# Altium footprint library Resonit_PCB_lib.PcbLib: 20 footprints (part 1 of 2)
Each footprint in its own frame and in the unit in brackets; x right, y up, seen from the top. Pads: shape width x height; smd on the part's side, far side on the other; paste and mask are expansions set on the pad; w line width, h text height; cw(c..) or ccw(c..) is an arc to the next point about the centre after c.
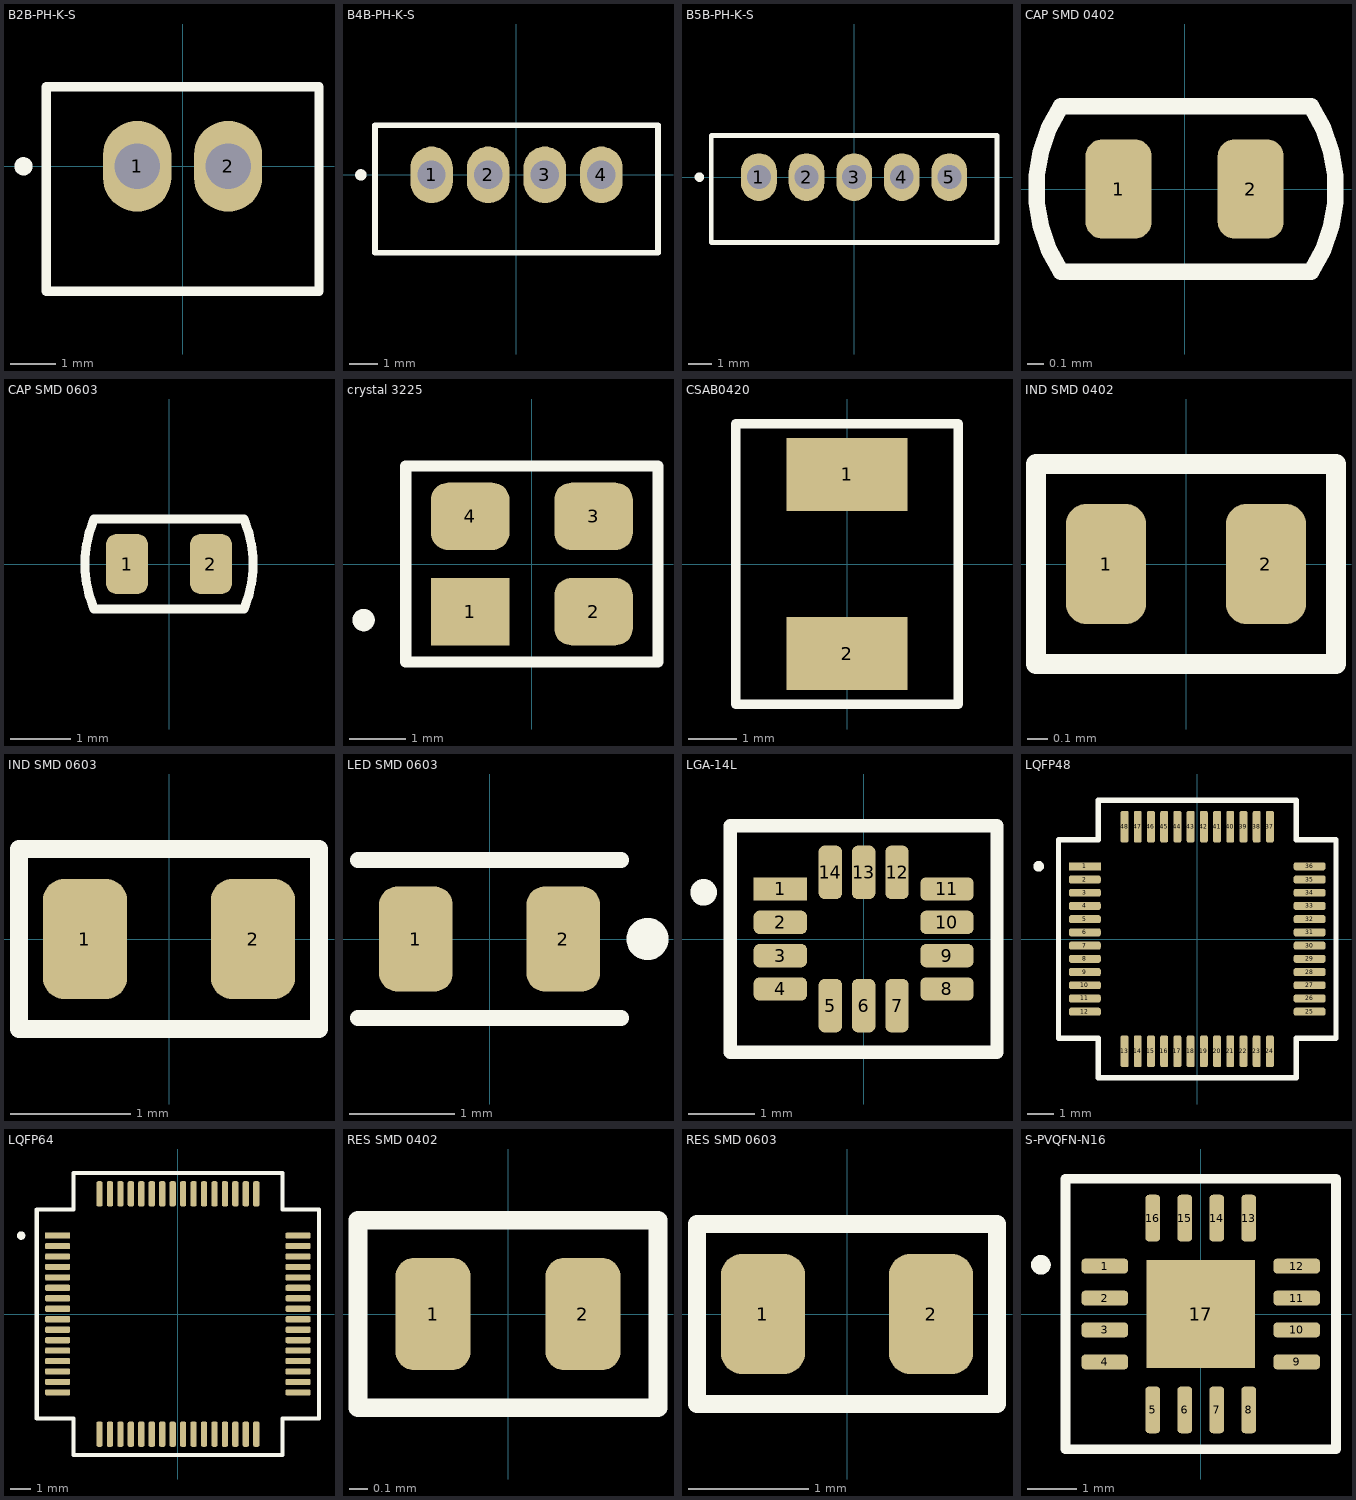
[diagram p0: the footprints below, top view; thin cyan lines are the x and y axes]

## B2B-PH-K-S [mm]
pads (2):
  oval 1.5x2 hole 1: 1(-1,0) 2(1,0)
Top Overlay:
  circle w0.2: c-3.5,0 r0.1
  lines w0.2: -3,-2.75 3,-2.75 3,1.75 -3,1.75 -3,-2.75
3D body "User Library-JST B2B-PH-K-S.step": height 6, standoff -3.4, extent -2.95,-2.75 2.95,1.75

## B4B-PH-K-S [mm]
pads (4):
  oval 1.5x2 hole 1: 1(-3,0) 2(-1,0) 3(1,0) 4(3,0)
Top Overlay:
  circle w0.2: c-5.5,0 r0.1
  lines w0.2: -5,-2.75 -5,1.75 5,1.75 5,-2.75 -5,-2.75
3D body "User Library-b4b-ph-k-s (1).step": height 6, standoff -3, extent -4.95,-2.75 4.95,1.75

## B5B-PH-K-S [mm]
pads (5):
  oval 1.5x2 hole 1: 1(-4,0) 2(-2,0) 3(0,0) 4(2,0) 5(4,0)
Top Overlay:
  circle w0.2: c-6.5,0 r0.1
  lines w0.2: -6,-2.75 6,-2.75 6,1.75 -6,1.75 -6,-2.75
3D body "User Library-B5B-PH-K-S(LF)(SN).step": height 6, standoff -3.4, extent -5.95,-2.75 5.95,1.75

## CAP SMD 0402 [mm]
pads (2):
  rrect50% 0.4x0.6 smd: 1(-0.4,0) 2(0.4,0)
Top Overlay:
  lines w0.1: 0.75,-0.5 -0.75,-0.5 cw(c0.008,0) -0.75,0.5 0.75,0.5 ; 0.767,-0.5 ccw(c0.008,0) 0.767,0.5
3D body "User Library-Cap-SMT (1).step": height 0.5, standoff 0, extent -0.5,-0.25 0.5,0.25

## CAP SMD 0603 [mm]
pads (2):
  rrect50% 0.7x1 smd: 1(-0.7,0) 2(0.7,0)
Top Overlay:
  lines w0.15: -1.25,-0.75 cw(c0.55,0) -1.25,0.75 1.25,0.75 cw(c-0.55,0) 1.25,-0.75 -1.25,-0.75
3D body "User Library-Cap-SMT.step": height 0.8, standoff 0, extent -0.8,-0.4 0.8,0.4

## crystal 3225 [mm]
pads (4):
  rect 1.4x1.2 smd: 1(-1.1,-0.85)
  rrect50% 1.4x1.2 smd: 2(1.1,-0.85) 3(1.1,0.85) 4(-1.1,0.85)
Top Overlay:
  circle w0.2: c-3,-1 r0.1
  lines w0.2: -2.25,-1.75 2.25,-1.75 2.25,1.75 -2.25,1.75 -2.25,-1.75
3D body "User Library-Crystal_ECX-32.STEP": height 0.82, standoff 0, extent -1.6,-1.25 1.6,1.25

## CSAB0420 [mm]
pads (2):
  rect 2.5x1.5 smd: 1(0,1.85) 2(0,-1.85)
Top Overlay:
  lines w0.2: -2.3,-2.9 -2.3,2.9 2.3,2.9 2.3,-2.9 -2.3,-2.9
3D body "CSAB0420.stp": height 1.9, standoff 0.05, extent -2.1,-2.35 2.1,2.35

## IND SMD 0402 [mm]
pads (2):
  rrect50% 0.4x0.6 smd: 1(-0.4,0) 2(0.4,0)
Top Overlay:
  lines w0.1: -0.75,-0.5 -0.75,0.5 0.75,0.5 0.75,-0.5 -0.75,-0.5
3D body "Coilcraft-0402HPH.step": height 0.65, standoff -0.01, extent -0.559,-0.356 0.559,0.356

## IND SMD 0603 [mm]
pads (2):
  rrect50% 0.7x1 smd: 1(-0.7,0) 2(0.7,0)
Top Overlay:
  lines w0.15: -1.25,-0.75 -1.25,0.75 1.25,0.75 1.25,-0.75 -1.25,-0.75
3D body "Coilcraft-0603HP.step": height 0.93, standoff -0.01, extent -0.875,-0.545 0.875,0.545

## LED SMD 0603 [mm]
pads (2):
  rrect50% 0.7x1 smd: 1(-0.7,0) 2(0.7,0)
Top Overlay:
  circle w0.2: c1.5,0 r0.1
  lines w0.15: -1.25,-0.75 1.25,-0.75 ; -1.25,0.75 1.25,0.75
3D body "ALSRobot-LED0603(R).step": height 0.6, standoff 0, extent -0.81,-0.4 0.81,0.4

## LGA-14L [mm]
pads (14):
  rect 0.8x0.35 smd: 1(-1.25,0.75)
  rrect50% 0.8x0.35 smd: 2(-1.25,0.25) 3(-1.25,-0.25) 4(-1.25,-0.75) 8(1.25,-0.75) 9(1.25,-0.25) 10(1.25,0.25) 11(1.25,0.75)
  rrect50% 0.35x0.8 smd: 5(-0.5,-1) 6(0,-1) 7(0.5,-1) 12(0.5,1) 13(0,1) 14(-0.5,1)
Top Overlay:
  circle w0.2: c-2.4,0.7 r0.1
  lines w0.2: -2,-1.7 2,-1.7 2,1.7 -2,1.7 -2,-1.7
3D body "User Library-LGA-14L.step": height 0.91, standoff 0.04, extent -1.5,-1.25 1.5,1.25

## LQFP48 [mm]
pads (48):
  rect 1.2x0.3 smd: 1(-4.25,2.75)
  rrect50% 1.2x0.3 smd: 2(-4.25,2.25) 3(-4.25,1.75) 4(-4.25,1.25) 5(-4.25,0.75) 6(-4.25,0.25) 7(-4.25,-0.25) 8(-4.25,-0.75) 9(-4.25,-1.25) 10(-4.25,-1.75) 11(-4.25,-2.25) 12(-4.25,-2.75) 25(4.25,-2.75) 26(4.25,-2.25) 27(4.25,-1.75) 28(4.25,-1.25) 29(4.25,-0.75) 30(4.25,-0.25) 31(4.25,0.25) 32(4.25,0.75) 33(4.25,1.25) 34(4.25,1.75) 35(4.25,2.25) 36(4.25,2.75)
  rrect50% 0.3x1.2 smd: 13(-2.75,-4.25) 14(-2.25,-4.25) 15(-1.75,-4.25) 16(-1.25,-4.25) 17(-0.75,-4.25) 18(-0.25,-4.25) 19(0.25,-4.25) 20(0.75,-4.25) 21(1.25,-4.25) 22(1.75,-4.25) 23(2.25,-4.25) 24(2.75,-4.25) 37(2.75,4.25) 38(2.25,4.25) 39(1.75,4.25) 40(1.25,4.25) 41(0.75,4.25) 42(0.25,4.25) 43(-0.25,4.25) 44(-0.75,4.25) 45(-1.25,4.25) 46(-1.75,4.25) 47(-2.25,4.25) 48(-2.75,4.25)
Top Overlay:
  circle w0.2: c-6,2.75 r0.1
  lines w0.2: -3.75,-3.75 -3.75,-5.25 3.75,-5.25 3.75,-3.75 ; -3.75,-3.75 -3.75,-3.75 ; -3.75,-3.75 -5.25,-3.75 -5.25,3.75 -3.75,3.75 -3.75,5.25 3.75,5.25 ; 3.75,-3.75 5.25,-3.75 5.25,3.75 3.75,3.75 3.75,5.25 ; 3.75,-3.75 3.75,-3.75 ; 3.75,5.25 3.75,5.25
3D body "User Library-LQFP48-2.STEP": height 1.62, standoff -0.01, extent -4.572,-4.572 4.572,4.572

## LQFP64 [mm]
pads (64):
  rect 1.2x0.3 smd: 1(-5.75,3.75)
  rrect50% 1.2x0.3 smd: 2(-5.75,3.25) 3(-5.75,2.75) 4(-5.75,2.25) 5(-5.75,1.75) 6(-5.75,1.25) 7(-5.75,0.75) 8(-5.75,0.25) 9(-5.75,-0.25) 10(-5.75,-0.75) 11(-5.75,-1.25) 12(-5.75,-1.75) 13(-5.75,-2.25) 14(-5.75,-2.75) 15(-5.75,-3.25) 16(-5.75,-3.75) 33(5.75,-3.75) 34(5.75,-3.25) 35(5.75,-2.75) 36(5.75,-2.25) 37(5.75,-1.75) 38(5.75,-1.25) 39(5.75,-0.75) 40(5.75,-0.25) 41(5.75,0.25) 42(5.75,0.75) 43(5.75,1.25) 44(5.75,1.75) 45(5.75,2.25) 46(5.75,2.75) 47(5.75,3.25) 48(5.75,3.75)
  rrect50% 0.3x1.2 smd: 17(-3.75,-5.75) 18(-3.25,-5.75) 19(-2.75,-5.75) 20(-2.25,-5.75) 21(-1.75,-5.75) 22(-1.25,-5.75) 23(-0.75,-5.75) 24(-0.25,-5.75) 25(0.25,-5.75) 26(0.75,-5.75) 27(1.25,-5.75) 28(1.75,-5.75) 29(2.25,-5.75) 30(2.75,-5.75) 31(3.25,-5.75) 32(3.75,-5.75) 49(3.75,5.75) 50(3.25,5.75) 51(2.75,5.75) 52(2.25,5.75) 53(1.75,5.75) 54(1.25,5.75) 55(0.75,5.75) 56(0.25,5.75) 57(-0.25,5.75) 58(-0.75,5.75) 59(-1.25,5.75) 60(-1.75,5.75) 61(-2.25,5.75) 62(-2.75,5.75) 63(-3.25,5.75) 64(-3.75,5.75)
Top Overlay:
  circle w0.2: c-7.5,3.75 r0.1
  lines w0.2: -6.75,-5 -5,-5 -5,-6.75 5,-6.75 5,-5 6.75,-5 6.75,5 5,5 5,6.75 -5,6.75 -5,5 -6.75,5 -6.75,-5
3D body "User Library-LQFP64-1.step": height 1.56, standoff 0, extent -6,-6 6,6

## RES SMD 0402 [mm]
pads (2):
  rrect50% 0.4x0.6 smd: 1(-0.4,0) 2(0.4,0)
Top Overlay:
  lines w0.1: -0.8,-0.5 0.8,-0.5 0.8,0.5 -0.8,0.5 -0.8,-0.5
3D body "User Library-Resistor-SMT (1).step": height 0.3, standoff 0, extent -0.5,-0.25 0.5,0.25

## RES SMD 0603 [mm]
pads (2):
  rrect50% 0.7x1 smd: 1(-0.7,0) 2(0.7,0)
Top Overlay:
  lines w0.15: -1.25,-0.75 1.25,-0.75 1.25,0.75 -1.25,0.75 -1.25,-0.75
3D body "User Library-Resistor-SMT.step": height 0.4, standoff 0, extent -0.8,-0.4 0.8,0.4

## S-PVQFN-N16 [mm]
pads (17):
  rrect50% 0.95x0.3 smd: 1(-1.95,0.975) 2(-1.95,0.325) 3(-1.95,-0.325) 4(-1.95,-0.975) 9(1.95,-0.975) 10(1.95,-0.325) 11(1.95,0.325) 12(1.95,0.975)
  rrect50% 0.3x0.95 smd: 5(-0.975,-1.95) 6(-0.325,-1.95) 7(0.325,-1.95) 8(0.975,-1.95) 13(0.975,1.95) 14(0.325,1.95) 15(-0.325,1.95) 16(-0.975,1.95)
  rect 2.2x2.2 smd: 17(0,0)
Top Overlay:
  circle w0.2: c-3.25,1 r0.1
  lines w0.2: -2.75,-2.75 2.75,-2.75 2.75,2.75 -2.75,2.75 -2.75,-2.75
3D body "RGV0016A.stp": height 1, standoff 0, extent -2,-2 2,2